# Altium schematic symbol library TLE4284DV.Schlib: 1 symbol
Pins are listed as number, name and electrical type; pins without a type are passive.

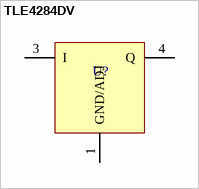
[diagram p0: symbol TLE4284DV]

## TLE4284DV
designator U?
40V, 1A linear Voltage Regulator
pins: 1 GND/ADJ, 3 I (power), 4 Q (power)